# Altium schematic symbol library WE-PD.SchLib: 360 symbols (part 6 of 7)
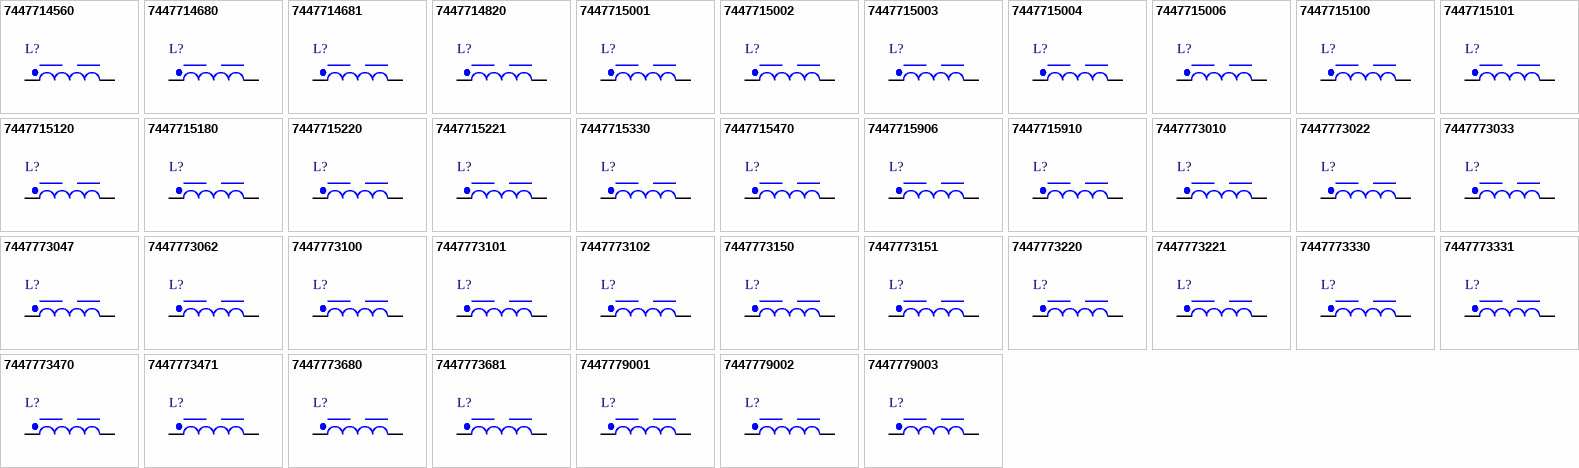
[diagram p13: symbols 7447714560 to 7447779003]

## 7447773471
designator L?, comment 470 μH, 0.43 A  (value not drawn)
WE-PD SMT Power Inductor, size 7345P, 470 μH, 0.43 A, 1700 mΩ; Manufacturer Part Number: 7447773471; Manufacturer: Wurth Elektronik; DC Resistance: 1360 mΩ; DC Resistance Max: 1700 mΩ; Inductance: 470 μH; Rated Current: 0.43 A; Saturation Current: 0.55 A; Self Resonant Frequency: 2.8 MHz; Type: Performance; Category: Power Inductors; Match Code: WE-PD; ComponentLink1Description: Website Link; ComponentLink1URL: https://www.we-online.com/redexpert/article/7447773471?ad; ComponentLink2Description: Datasheet Link; ComponentLink2URL: https://www.we-online.com/redexpert/spec/7447773471?ad; Mount: Surface Mount; Min Operating Temperature: -40 °C; Max Operating Temperature: 150 °C; Packaging: Tape and Reel; Case/Size Code: 7345P; Length: 7.3 mm; Width: 7.4 mm; Height: 4.5 mm
footprint WE-PD_7345P
simulation model 7345_7447773471_470u
pins: 1, 2

## 7447773680
designator L?, comment 68 μH, 1.15 A  (value not drawn)
WE-PD SMT Power Inductor, size 7345P, 68 μH, 1.15 A, 230 mΩ; Manufacturer Part Number: 7447773680; Manufacturer: Wurth Elektronik; DC Resistance: 190 mΩ; DC Resistance Max: 230 mΩ; Inductance: 68 μH; Rated Current: 1.15 A; Saturation Current: 1.45 A; Self Resonant Frequency: 8.4 MHz; Type: Performance; Category: Power Inductors; Match Code: WE-PD; ComponentLink1Description: Website Link; ComponentLink1URL: https://www.we-online.com/redexpert/article/7447773680?ad; ComponentLink2Description: Datasheet Link; ComponentLink2URL: https://www.we-online.com/redexpert/spec/7447773680?ad; Mount: Surface Mount; Min Operating Temperature: -40 °C; Max Operating Temperature: 150 °C; Packaging: Tape and Reel; Case/Size Code: 7345P; Length: 7.3 mm; Width: 7.4 mm; Height: 4.5 mm
footprint WE-PD_7345P
simulation model 7345_7447773680_68u
pins: 1, 2

## 7447773681
designator L?, comment 680 μH, 0.36 A  (value not drawn)
WE-PD SMT Power Inductor, size 7345P, 680 μH, 0.36 A, 2300 mΩ; Manufacturer Part Number: 7447773681; Manufacturer: Wurth Elektronik; DC Resistance: 1950 mΩ; DC Resistance Max: 2300 mΩ; Inductance: 680 μH; Rated Current: 0.36 A; Saturation Current: 0.46 A; Self Resonant Frequency: 2.3 MHz; Type: Performance; Category: Power Inductors; Match Code: WE-PD; ComponentLink1Description: Website Link; ComponentLink1URL: https://www.we-online.com/redexpert/article/7447773681?ad; ComponentLink2Description: Datasheet Link; ComponentLink2URL: https://www.we-online.com/redexpert/spec/7447773681?ad; Mount: Surface Mount; Min Operating Temperature: -40 °C; Max Operating Temperature: 150 °C; Packaging: Tape and Reel; Case/Size Code: 7345P; Length: 7.3 mm; Width: 7.4 mm; Height: 4.5 mm
footprint WE-PD_7345P
simulation model 7345_7447773681_680u
pins: 1, 2

## 7447779001
designator L?, comment 1 μH, 5.3 A  (value not drawn)
WE-PD SMT Power Inductor, size 7345R, 1 μH, 5.3 A, 15 mΩ; Manufacturer Part Number: 7447779001; Manufacturer: Wurth Elektronik; DC Resistance: 10 mΩ; DC Resistance Max: 15 mΩ; Inductance: 1 μH; Rated Current: 5.3 A; Saturation Current: 9.5 A; Self Resonant Frequency: 100 MHz; Type: Robust; Category: Power Inductors; Match Code: WE-PD; ComponentLink1Description: Website Link; ComponentLink1URL: https://www.we-online.com/redexpert/article/7447779001?ad; ComponentLink2Description: Datasheet Link; ComponentLink2URL: https://www.we-online.com/redexpert/spec/7447779001?ad; Mount: Surface Mount; Min Operating Temperature: -40 °C; Max Operating Temperature: 125 °C; Packaging: Tape and Reel; Case/Size Code: 7345R; Length: 7.3 mm; Width: 7.3 mm; Height: 4.5 mm
footprint WE-PD_7345R
simulation model 7345_7447779001_1u
pins: 1, 2

## 7447779002
designator L?, comment 2.2 μH, 4.2 A  (value not drawn)
WE-PD SMT Power Inductor, size 7345R, 2.2 μH, 4.2 A, 20 mΩ; Manufacturer Part Number: 7447779002; Manufacturer: Wurth Elektronik; DC Resistance: 16 mΩ; DC Resistance Max: 20 mΩ; Inductance: 2.2 μH; Rated Current: 4.2 A; Saturation Current: 6 A; Self Resonant Frequency: 60 MHz; Type: Robust; Category: Power Inductors; Match Code: WE-PD; ComponentLink1Description: Website Link; ComponentLink1URL: https://www.we-online.com/redexpert/article/7447779002?ad; ComponentLink2Description: Datasheet Link; ComponentLink2URL: https://www.we-online.com/redexpert/spec/7447779002?ad; Mount: Surface Mount; Min Operating Temperature: -40 °C; Max Operating Temperature: 125 °C; Packaging: Tape and Reel; Case/Size Code: 7345R; Length: 7.3 mm; Width: 7.3 mm; Height: 4.5 mm
footprint WE-PD_7345R
simulation model 7345_7447779002_2.2u
pins: 1, 2

## 7447779003
designator L?, comment 3.3 μH, 3.3 A  (value not drawn)
WE-PD SMT Power Inductor, size 7345R, 3.3 μH, 3.3 A, 30 mΩ; Manufacturer Part Number: 7447779003; Manufacturer: Wurth Elektronik; DC Resistance: 26 mΩ; DC Resistance Max: 30 mΩ; Inductance: 3.3 μH; Rated Current: 3.3 A; Saturation Current: 4.5 A; Self Resonant Frequency: 55 MHz; Type: Robust; Category: Power Inductors; Match Code: WE-PD; ComponentLink1Description: Website Link; ComponentLink1URL: https://www.we-online.com/redexpert/article/7447779003?ad; ComponentLink2Description: Datasheet Link; ComponentLink2URL: https://www.we-online.com/redexpert/spec/7447779003?ad; Mount: Surface Mount; Min Operating Temperature: -40 °C; Max Operating Temperature: 125 °C; Packaging: Tape and Reel; Case/Size Code: 7345R; Length: 7.3 mm; Width: 7.3 mm; Height: 4.5 mm
footprint WE-PD_7345R
simulation model 7345_7447779003_3.3u
pins: 1, 2

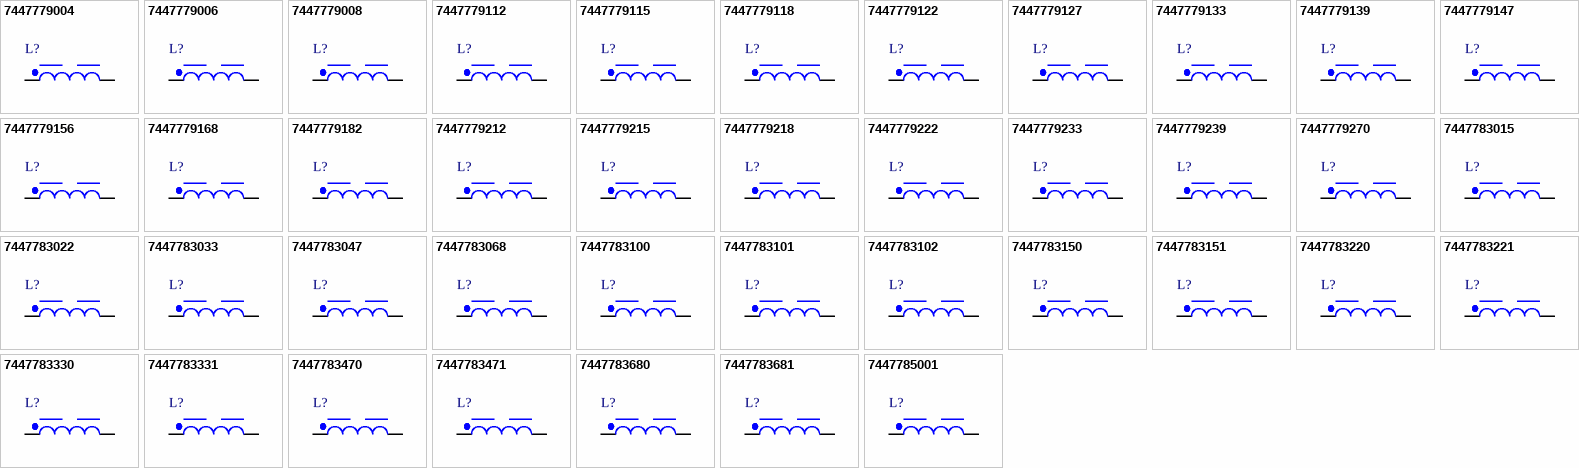
[diagram p7: symbols 7447779004 to 7447785001]

## 7447779004
designator L?, comment 4.7 μH, 3.16 A  (value not drawn)
WE-PD SMT Power Inductor, size 7345R, 4.7 μH, 3.16 A, 32 mΩ; Manufacturer Part Number: 7447779004; Manufacturer: Wurth Elektronik; DC Resistance: 28 mΩ; DC Resistance Max: 32 mΩ; Inductance: 4.7 μH; Rated Current: 3.16 A; Saturation Current: 4.4 A; Self Resonant Frequency: 37 MHz; Type: Robust; Category: Power Inductors; Match Code: WE-PD; ComponentLink1Description: Website Link; ComponentLink1URL: https://www.we-online.com/redexpert/article/7447779004?ad; ComponentLink2Description: Datasheet Link; ComponentLink2URL: https://www.we-online.com/redexpert/spec/7447779004?ad; Mount: Surface Mount; Min Operating Temperature: -40 °C; Max Operating Temperature: 125 °C; Packaging: Tape and Reel; Case/Size Code: 7345R; Length: 7.3 mm; Width: 7.3 mm; Height: 4.5 mm
footprint WE-PD_7345R
simulation model 7345_7447779004_4.7u
pins: 1, 2

## 7447779006
designator L?, comment 6.8 μH, 2.91 A  (value not drawn)
WE-PD SMT Power Inductor, size 7345R, 6.8 μH, 2.91 A, 35 mΩ; Manufacturer Part Number: 7447779006; Manufacturer: Wurth Elektronik; DC Resistance: 33 mΩ; DC Resistance Max: 35 mΩ; Inductance: 6.8 μH; Rated Current: 2.91 A; Saturation Current: 3.3 A; Self Resonant Frequency: 32 MHz; Type: Robust; Category: Power Inductors; Match Code: WE-PD; ComponentLink1Description: Website Link; ComponentLink1URL: https://www.we-online.com/redexpert/article/7447779006?ad; ComponentLink2Description: Datasheet Link; ComponentLink2URL: https://www.we-online.com/redexpert/spec/7447779006?ad; Mount: Surface Mount; Min Operating Temperature: -40 °C; Max Operating Temperature: 125 °C; Packaging: Tape and Reel; Case/Size Code: 7345R; Length: 7.3 mm; Width: 7.3 mm; Height: 4.5 mm
footprint WE-PD_7345R
simulation model 7345_7447779006_6.8u
pins: 1, 2

## 7447779008
designator L?, comment 8.2 μH, 2.7 A  (value not drawn)
WE-PD SMT Power Inductor, size 7345R, 8.2 μH, 2.7 A, 53 mΩ; Manufacturer Part Number: 7447779008; Manufacturer: Wurth Elektronik; DC Resistance: 47 mΩ; DC Resistance Max: 53 mΩ; Inductance: 8.2 μH; Rated Current: 2.7 A; Saturation Current: 3 A; Self Resonant Frequency: 28 MHz; Type: Robust; Category: Power Inductors; Match Code: WE-PD; ComponentLink1Description: Website Link; ComponentLink1URL: https://www.we-online.com/redexpert/article/7447779008?ad; ComponentLink2Description: Datasheet Link; ComponentLink2URL: https://www.we-online.com/redexpert/spec/7447779008?ad; Mount: Surface Mount; Min Operating Temperature: -40 °C; Max Operating Temperature: 125 °C; Packaging: Tape and Reel; Case/Size Code: 7345R; Length: 7.3 mm; Width: 7.3 mm; Height: 4.5 mm
footprint WE-PD_7345R
simulation model 7345_7447779008_8.2u
pins: 1, 2

## 7447779112
designator L?, comment 12 μH, 1.82 A  (value not drawn)
WE-PD SMT Power Inductor, size 7345R, 12 μH, 1.82 A, 62 mΩ; Manufacturer Part Number: 7447779112; Manufacturer: Wurth Elektronik; DC Resistance: 52 mΩ; DC Resistance Max: 62 mΩ; Inductance: 12 μH; Rated Current: 1.82 A; Saturation Current: 2.4 A; Self Resonant Frequency: 23 MHz; Type: Robust; Category: Power Inductors; Match Code: WE-PD; ComponentLink1Description: Website Link; ComponentLink1URL: https://www.we-online.com/redexpert/article/7447779112?ad; ComponentLink2Description: Datasheet Link; ComponentLink2URL: https://www.we-online.com/redexpert/spec/7447779112?ad; Mount: Surface Mount; Min Operating Temperature: -40 °C; Max Operating Temperature: 125 °C; Packaging: Tape and Reel; Case/Size Code: 7345R; Length: 7.3 mm; Width: 7.3 mm; Height: 4.5 mm
footprint WE-PD_7345R
simulation model 7345_7447779112_12u
pins: 1, 2

## 7447779115
designator L?, comment 15 μH, 1.6 A  (value not drawn)
WE-PD SMT Power Inductor, size 7345R, 15 μH, 1.6 A, 81 mΩ; Manufacturer Part Number: 7447779115; Manufacturer: Wurth Elektronik; DC Resistance: 70 mΩ; DC Resistance Max: 81 mΩ; Inductance: 15 μH; Rated Current: 1.6 A; Saturation Current: 2.2 A; Self Resonant Frequency: 19.5 MHz; Type: Robust; Category: Power Inductors; Match Code: WE-PD; ComponentLink1Description: Website Link; ComponentLink1URL: https://www.we-online.com/redexpert/article/7447779115?ad; ComponentLink2Description: Datasheet Link; ComponentLink2URL: https://www.we-online.com/redexpert/spec/7447779115?ad; Mount: Surface Mount; Min Operating Temperature: -40 °C; Max Operating Temperature: 125 °C; Packaging: Tape and Reel; Case/Size Code: 7345R; Length: 7.3 mm; Width: 7.3 mm; Height: 4.5 mm
footprint WE-PD_7345R
simulation model 7345_7447779115_15u
pins: 1, 2

## 7447779118
designator L?, comment 18 μH, 1.5 A  (value not drawn)
WE-PD SMT Power Inductor, size 7345R, 18 μH, 1.5 A, 91 mΩ; Manufacturer Part Number: 7447779118; Manufacturer: Wurth Elektronik; DC Resistance: 80 mΩ; DC Resistance Max: 91 mΩ; Inductance: 18 μH; Rated Current: 1.5 A; Saturation Current: 2.05 A; Self Resonant Frequency: 19 MHz; Type: Robust; Category: Power Inductors; Match Code: WE-PD; ComponentLink1Description: Website Link; ComponentLink1URL: https://www.we-online.com/redexpert/article/7447779118?ad; ComponentLink2Description: Datasheet Link; ComponentLink2URL: https://www.we-online.com/redexpert/spec/7447779118?ad; Mount: Surface Mount; Min Operating Temperature: -40 °C; Max Operating Temperature: 125 °C; Packaging: Tape and Reel; Case/Size Code: 7345R; Length: 7.3 mm; Width: 7.3 mm; Height: 4.5 mm
footprint WE-PD_7345R
simulation model 7345_7447779118_18u
pins: 1, 2

## 7447779122
designator L?, comment 22 μH, 1.41 A  (value not drawn)
WE-PD SMT Power Inductor, size 7345R, 22 μH, 1.41 A, 110 mΩ; Manufacturer Part Number: 7447779122; Manufacturer: Wurth Elektronik; DC Resistance: 90 mΩ; DC Resistance Max: 110 mΩ; Inductance: 22 μH; Rated Current: 1.41 A; Saturation Current: 1.7 A; Self Resonant Frequency: 17 MHz; Type: Robust; Category: Power Inductors; Match Code: WE-PD; ComponentLink1Description: Website Link; ComponentLink1URL: https://www.we-online.com/redexpert/article/7447779122?ad; ComponentLink2Description: Datasheet Link; ComponentLink2URL: https://www.we-online.com/redexpert/spec/7447779122?ad; Mount: Surface Mount; Min Operating Temperature: -40 °C; Max Operating Temperature: 125 °C; Packaging: Tape and Reel; Case/Size Code: 7345R; Length: 7.3 mm; Width: 7.3 mm; Height: 4.5 mm
footprint WE-PD_7345R
simulation model 7345_7447779122_22u
pins: 1, 2

## 7447779127
designator L?, comment 27 μH, 1.24 A  (value not drawn)
WE-PD SMT Power Inductor, size 7345R, 27 μH, 1.24 A, 150 mΩ; Manufacturer Part Number: 7447779127; Manufacturer: Wurth Elektronik; DC Resistance: 120 mΩ; DC Resistance Max: 150 mΩ; Inductance: 27 μH; Rated Current: 1.24 A; Saturation Current: 1.55 A; Self Resonant Frequency: 15 MHz; Type: Robust; Category: Power Inductors; Match Code: WE-PD; ComponentLink1Description: Website Link; ComponentLink1URL: https://www.we-online.com/redexpert/article/7447779127?ad; ComponentLink2Description: Datasheet Link; ComponentLink2URL: https://www.we-online.com/redexpert/spec/7447779127?ad; Mount: Surface Mount; Min Operating Temperature: -40 °C; Max Operating Temperature: 125 °C; Packaging: Tape and Reel; Case/Size Code: 7345R; Length: 7.3 mm; Width: 7.3 mm; Height: 4.5 mm
footprint WE-PD_7345R
simulation model 7345_7447779127_27u
pins: 1, 2

## 7447779133
designator L?, comment 33 μH, 1.13 A  (value not drawn)
WE-PD SMT Power Inductor, size 7345R, 33 μH, 1.13 A, 170 mΩ; Manufacturer Part Number: 7447779133; Manufacturer: Wurth Elektronik; DC Resistance: 140 mΩ; DC Resistance Max: 170 mΩ; Inductance: 33 μH; Rated Current: 1.13 A; Saturation Current: 1.4 A; Self Resonant Frequency: 13 MHz; Type: Robust; Category: Power Inductors; Match Code: WE-PD; ComponentLink1Description: Website Link; ComponentLink1URL: https://www.we-online.com/redexpert/article/7447779133?ad; ComponentLink2Description: Datasheet Link; ComponentLink2URL: https://www.we-online.com/redexpert/spec/7447779133?ad; Mount: Surface Mount; Min Operating Temperature: -40 °C; Max Operating Temperature: 125 °C; Packaging: Tape and Reel; Case/Size Code: 7345R; Length: 7.3 mm; Width: 7.3 mm; Height: 4.5 mm
footprint WE-PD_7345R
simulation model 7345_7447779133_33u
pins: 1, 2

## 7447779139
designator L?, comment 39 μH, 1.11 A  (value not drawn)
WE-PD SMT Power Inductor, size 7345R, 39 μH, 1.11 A, 230 mΩ; Manufacturer Part Number: 7447779139; Manufacturer: Wurth Elektronik; DC Resistance: 145 mΩ; DC Resistance Max: 230 mΩ; Inductance: 39 μH; Rated Current: 1.11 A; Saturation Current: 1.23 A; Self Resonant Frequency: 12 MHz; Type: Robust; Category: Power Inductors; Match Code: WE-PD; ComponentLink1Description: Website Link; ComponentLink1URL: https://www.we-online.com/redexpert/article/7447779139?ad; ComponentLink2Description: Datasheet Link; ComponentLink2URL: https://www.we-online.com/redexpert/spec/7447779139?ad; Mount: Surface Mount; Min Operating Temperature: -40 °C; Max Operating Temperature: 125 °C; Packaging: Tape and Reel; Case/Size Code: 7345R; Length: 7.3 mm; Width: 7.3 mm; Height: 4.5 mm
footprint WE-PD_7345R
simulation model 7345_7447779139_39u
pins: 1, 2

## 7447779147
designator L?, comment 47 μH, 1.03 A  (value not drawn)
WE-PD SMT Power Inductor, size 7345R, 47 μH, 1.03 A, 260 mΩ; Manufacturer Part Number: 7447779147; Manufacturer: Wurth Elektronik; DC Resistance: 190 mΩ; DC Resistance Max: 260 mΩ; Inductance: 47 μH; Rated Current: 1.03 A; Saturation Current: 1.1 A; Self Resonant Frequency: 10.5 MHz; Type: Robust; Category: Power Inductors; Match Code: WE-PD; ComponentLink1Description: Website Link; ComponentLink1URL: https://www.we-online.com/redexpert/article/7447779147?ad; ComponentLink2Description: Datasheet Link; ComponentLink2URL: https://www.we-online.com/redexpert/spec/7447779147?ad; Mount: Surface Mount; Min Operating Temperature: -40 °C; Max Operating Temperature: 125 °C; Packaging: Tape and Reel; Case/Size Code: 7345R; Length: 7.3 mm; Width: 7.3 mm; Height: 4.5 mm
footprint WE-PD_7345R
simulation model 7345_7447779147_47u
pins: 1, 2

## 7447779156
designator L?, comment 56 μH, 0.93 A  (value not drawn)
WE-PD SMT Power Inductor, size 7345R, 56 μH, 0.93 A, 350 mΩ; Manufacturer Part Number: 7447779156; Manufacturer: Wurth Elektronik; DC Resistance: 228 mΩ; DC Resistance Max: 350 mΩ; Inductance: 56 μH; Rated Current: 0.93 A; Saturation Current: 1.05 A; Self Resonant Frequency: 10 MHz; Type: Robust; Category: Power Inductors; Match Code: WE-PD; ComponentLink1Description: Website Link; ComponentLink1URL: https://www.we-online.com/redexpert/article/7447779156?ad; ComponentLink2Description: Datasheet Link; ComponentLink2URL: https://www.we-online.com/redexpert/spec/7447779156?ad; Mount: Surface Mount; Min Operating Temperature: -40 °C; Max Operating Temperature: 125 °C; Packaging: Tape and Reel; Case/Size Code: 7345R; Length: 7.3 mm; Width: 7.3 mm; Height: 4.5 mm
footprint WE-PD_7345R
simulation model 7345_7447779156_56u
pins: 1, 2

## 7447779168
designator L?, comment 68 μH, 0.87 A  (value not drawn)
WE-PD SMT Power Inductor, size 7345R, 68 μH, 0.87 A, 380 mΩ; Manufacturer Part Number: 7447779168; Manufacturer: Wurth Elektronik; DC Resistance: 239 mΩ; DC Resistance Max: 380 mΩ; Inductance: 68 μH; Rated Current: 0.87 A; Saturation Current: 0.95 A; Self Resonant Frequency: 9 MHz; Type: Robust; Category: Power Inductors; Match Code: WE-PD; ComponentLink1Description: Website Link; ComponentLink1URL: https://www.we-online.com/redexpert/article/7447779168?ad; ComponentLink2Description: Datasheet Link; ComponentLink2URL: https://www.we-online.com/redexpert/spec/7447779168?ad; Mount: Surface Mount; Min Operating Temperature: -40 °C; Max Operating Temperature: 125 °C; Packaging: Tape and Reel; Case/Size Code: 7345R; Length: 7.3 mm; Width: 7.3 mm; Height: 4.5 mm
footprint WE-PD_7345R
simulation model 7345_7447779168_68u
pins: 1, 2

## 7447779182
designator L?, comment 82 μH, 0.84 A  (value not drawn)
WE-PD SMT Power Inductor, size 7345R, 82 μH, 0.84 A, 430 mΩ; Manufacturer Part Number: 7447779182; Manufacturer: Wurth Elektronik; DC Resistance: 250 mΩ; DC Resistance Max: 430 mΩ; Inductance: 82 μH; Rated Current: 0.84 A; Saturation Current: 0.9 A; Self Resonant Frequency: 8 MHz; Type: Robust; Category: Power Inductors; Match Code: WE-PD; ComponentLink1Description: Website Link; ComponentLink1URL: https://www.we-online.com/redexpert/article/7447779182?ad; ComponentLink2Description: Datasheet Link; ComponentLink2URL: https://www.we-online.com/redexpert/spec/7447779182?ad; Mount: Surface Mount; Min Operating Temperature: -40 °C; Max Operating Temperature: 125 °C; Packaging: Tape and Reel; Case/Size Code: 7345R; Length: 7.3 mm; Width: 7.3 mm; Height: 4.5 mm
footprint WE-PD_7345R
simulation model 7345_7447779182_82u
pins: 1, 2

## 7447779212
designator L?, comment 120 μH, 0.67 A  (value not drawn)
WE-PD SMT Power Inductor, size 7345R, 120 μH, 0.67 A, 660 mΩ; Manufacturer Part Number: 7447779212; Manufacturer: Wurth Elektronik; DC Resistance: 396 mΩ; DC Resistance Max: 660 mΩ; Inductance: 120 μH; Rated Current: 0.67 A; Saturation Current: 0.7 A; Self Resonant Frequency: 6.7 MHz; Type: Robust; Category: Power Inductors; Match Code: WE-PD; ComponentLink1Description: Website Link; ComponentLink1URL: https://www.we-online.com/redexpert/article/7447779212?ad; ComponentLink2Description: Datasheet Link; ComponentLink2URL: https://www.we-online.com/redexpert/spec/7447779212?ad; Mount: Surface Mount; Min Operating Temperature: -40 °C; Max Operating Temperature: 125 °C; Packaging: Tape and Reel; Case/Size Code: 7345R; Length: 7.3 mm; Width: 7.3 mm; Height: 4.5 mm
footprint WE-PD_7345R
simulation model 7345_7447779212_120u
pins: 1, 2

## 7447779215
designator L?, comment 150 μH, 0.52 A  (value not drawn)
WE-PD SMT Power Inductor, size 7345R, 150 μH, 0.52 A, 880 mΩ; Manufacturer Part Number: 7447779215; Manufacturer: Wurth Elektronik; DC Resistance: 529 mΩ; DC Resistance Max: 880 mΩ; Inductance: 150 μH; Rated Current: 0.52 A; Saturation Current: 0.63 A; Self Resonant Frequency: 6 MHz; Type: Robust; Category: Power Inductors; Match Code: WE-PD; ComponentLink1Description: Website Link; ComponentLink1URL: https://www.we-online.com/redexpert/article/7447779215?ad; ComponentLink2Description: Datasheet Link; ComponentLink2URL: https://www.we-online.com/redexpert/spec/7447779215?ad; Mount: Surface Mount; Min Operating Temperature: -40 °C; Max Operating Temperature: 125 °C; Packaging: Tape and Reel; Case/Size Code: 7345R; Length: 7.3 mm; Width: 7.3 mm; Height: 4.5 mm
footprint WE-PD_7345R
simulation model 7345_7447779215_150u
pins: 1, 2

## 7447779218
designator L?, comment 180 μH, 0.51 A  (value not drawn)
WE-PD SMT Power Inductor, size 7345R, 180 μH, 0.51 A, 980 mΩ; Manufacturer Part Number: 7447779218; Manufacturer: Wurth Elektronik; DC Resistance: 603 mΩ; DC Resistance Max: 980 mΩ; Inductance: 180 μH; Rated Current: 0.51 A; Saturation Current: 0.56 A; Self Resonant Frequency: 5.3 MHz; Type: Robust; Category: Power Inductors; Match Code: WE-PD; ComponentLink1Description: Website Link; ComponentLink1URL: https://www.we-online.com/redexpert/article/7447779218?ad; ComponentLink2Description: Datasheet Link; ComponentLink2URL: https://www.we-online.com/redexpert/spec/7447779218?ad; Mount: Surface Mount; Min Operating Temperature: -40 °C; Max Operating Temperature: 125 °C; Packaging: Tape and Reel; Case/Size Code: 7345R; Length: 7.3 mm; Width: 7.3 mm; Height: 4.5 mm
footprint WE-PD_7345R
simulation model 7345_7447779218_180u
pins: 1, 2

## 7447779222
designator L?, comment 220 μH, 0.44 A  (value not drawn)
WE-PD SMT Power Inductor, size 7345R, 220 μH, 0.44 A, 1170 mΩ; Manufacturer Part Number: 7447779222; Manufacturer: Wurth Elektronik; DC Resistance: 920 mΩ; DC Resistance Max: 1170 mΩ; Inductance: 220 μH; Rated Current: 0.44 A; Saturation Current: 0.54 A; Self Resonant Frequency: 5 MHz; Type: Robust; Category: Power Inductors; Match Code: WE-PD; ComponentLink1Description: Website Link; ComponentLink1URL: https://www.we-online.com/redexpert/article/7447779222?ad; ComponentLink2Description: Datasheet Link; ComponentLink2URL: https://www.we-online.com/redexpert/spec/7447779222?ad; Mount: Surface Mount; Min Operating Temperature: -40 °C; Max Operating Temperature: 125 °C; Packaging: Tape and Reel; Case/Size Code: 7345R; Length: 7.3 mm; Width: 7.3 mm; Height: 4.5 mm
footprint WE-PD_7345R
simulation model 7345_7447779222_220u
pins: 1, 2

## 7447779233
designator L?, comment 330 μH, 0.39 A  (value not drawn)
WE-PD SMT Power Inductor, size 7345R, 330 μH, 0.39 A, 1860 mΩ; Manufacturer Part Number: 7447779233; Manufacturer: Wurth Elektronik; DC Resistance: 1150 mΩ; DC Resistance Max: 1860 mΩ; Inductance: 330 μH; Rated Current: 0.39 A; Saturation Current: 0.45 A; Self Resonant Frequency: 4 MHz; Type: Robust; Category: Power Inductors; Match Code: WE-PD; ComponentLink1Description: Website Link; ComponentLink1URL: https://www.we-online.com/redexpert/article/7447779233?ad; ComponentLink2Description: Datasheet Link; ComponentLink2URL: https://www.we-online.com/redexpert/spec/7447779233?ad; Mount: Surface Mount; Min Operating Temperature: -40 °C; Max Operating Temperature: 125 °C; Packaging: Tape and Reel; Case/Size Code: 7345R; Length: 7.3 mm; Width: 7.3 mm; Height: 4.5 mm
footprint WE-PD_7345R
simulation model 7345_7447779233_330u
pins: 1, 2

## 7447779239
designator L?, comment 390 μH, 0.38 A  (value not drawn)
WE-PD SMT Power Inductor, size 7345R, 390 μH, 0.38 A, 2850 mΩ; Manufacturer Part Number: 7447779239; Manufacturer: Wurth Elektronik; DC Resistance: 1400 mΩ; DC Resistance Max: 2850 mΩ; Inductance: 390 μH; Rated Current: 0.38 A; Saturation Current: 0.42 A; Self Resonant Frequency: 3.8 MHz; Type: Robust; Category: Power Inductors; Match Code: WE-PD; ComponentLink1Description: Website Link; ComponentLink1URL: https://www.we-online.com/redexpert/article/7447779239?ad; ComponentLink2Description: Datasheet Link; ComponentLink2URL: https://www.we-online.com/redexpert/spec/7447779239?ad; Mount: Surface Mount; Min Operating Temperature: -40 °C; Max Operating Temperature: 125 °C; Packaging: Tape and Reel; Case/Size Code: 7345R; Length: 7.3 mm; Width: 7.3 mm; Height: 4.5 mm
footprint WE-PD_7345R
simulation model 7345_7447779239_390u
pins: 1, 2

## 7447779270
designator L?, comment 270 μH, 0.43 A  (value not drawn)
WE-PD SMT Power Inductor, size 7345R, 270 μH, 0.43 A, 1640 mΩ; Manufacturer Part Number: 7447779270; Manufacturer: Wurth Elektronik; DC Resistance: 1090 mΩ; DC Resistance Max: 1640 mΩ; Inductance: 270 μH; Rated Current: 0.43 A; Saturation Current: 0.48 A; Self Resonant Frequency: 4.3 MHz; Type: Robust; Category: Power Inductors; Match Code: WE-PD; ComponentLink1Description: Website Link; ComponentLink1URL: https://www.we-online.com/redexpert/article/7447779270?ad; ComponentLink2Description: Datasheet Link; ComponentLink2URL: https://www.we-online.com/redexpert/spec/7447779270?ad; Mount: Surface Mount; Min Operating Temperature: -40 °C; Max Operating Temperature: 125 °C; Packaging: Tape and Reel; Case/Size Code: 7345R; Length: 7.3 mm; Width: 7.3 mm; Height: 4.5 mm
footprint WE-PD_7345R
simulation model 7345_7447779270_270u
pins: 1, 2

## 7447783015
designator L?, comment 1.5 μH, 5 A  (value not drawn)
WE-PD SMT Power Inductor, size 7332P, 1.5 μH, 5 A, 15 mΩ; Manufacturer Part Number: 7447783015; Manufacturer: Wurth Elektronik; DC Resistance: 12 mΩ; DC Resistance Max: 15 mΩ; Inductance: 1.5 μH; Rated Current: 5 A; Saturation Current: 7.8 A; Self Resonant Frequency: 73 MHz; Type: Performance; Category: Power Inductors; Match Code: WE-PD; ComponentLink1Description: Website Link; ComponentLink1URL: https://www.we-online.com/redexpert/article/7447783015?ad; ComponentLink2Description: Datasheet Link; ComponentLink2URL: https://www.we-online.com/redexpert/spec/7447783015?ad; Mount: Surface Mount; Min Operating Temperature: -40 °C; Max Operating Temperature: 150 °C; Packaging: Tape and Reel; Case/Size Code: 7332P; Length: 7.3 mm; Width: 7.4 mm; Height: 3.5 mm
footprint WE-PD_7332P
simulation model 7332_7447783015_1.5u
pins: 1, 2

## 7447783022
designator L?, comment 2.2 μH, 4.5 A  (value not drawn)
WE-PD SMT Power Inductor, size 7332P, 2.2 μH, 4.5 A, 19 mΩ; Manufacturer Part Number: 7447783022; Manufacturer: Wurth Elektronik; DC Resistance: 15.5 mΩ; DC Resistance Max: 19 mΩ; Inductance: 2.2 μH; Rated Current: 4.5 A; Saturation Current: 6.5 A; Self Resonant Frequency: 62 MHz; Type: Performance; Category: Power Inductors; Match Code: WE-PD; ComponentLink1Description: Website Link; ComponentLink1URL: https://www.we-online.com/redexpert/article/7447783022?ad; ComponentLink2Description: Datasheet Link; ComponentLink2URL: https://www.we-online.com/redexpert/spec/7447783022?ad; Mount: Surface Mount; Min Operating Temperature: -40 °C; Max Operating Temperature: 150 °C; Packaging: Tape and Reel; Case/Size Code: 7332P; Length: 7.3 mm; Width: 7.4 mm; Height: 3.5 mm
footprint WE-PD_7332P
simulation model 7332_7447783022_2.2u
pins: 1, 2

## 7447783033
designator L?, comment 3.3 μH, 4.1 A  (value not drawn)
WE-PD SMT Power Inductor, size 7332P, 3.3 μH, 4.1 A, 24 mΩ; Manufacturer Part Number: 7447783033; Manufacturer: Wurth Elektronik; DC Resistance: 18 mΩ; DC Resistance Max: 24 mΩ; Inductance: 3.3 μH; Rated Current: 4.1 A; Saturation Current: 5.3 A; Self Resonant Frequency: 51 MHz; Type: Performance; Category: Power Inductors; Match Code: WE-PD; ComponentLink1Description: Website Link; ComponentLink1URL: https://www.we-online.com/redexpert/article/7447783033?ad; ComponentLink2Description: Datasheet Link; ComponentLink2URL: https://www.we-online.com/redexpert/spec/7447783033?ad; Mount: Surface Mount; Min Operating Temperature: -40 °C; Max Operating Temperature: 150 °C; Packaging: Tape and Reel; Case/Size Code: 7332P; Length: 7.3 mm; Width: 7.4 mm; Height: 3.5 mm
footprint WE-PD_7332P
simulation model 7332_7447783033_3.3u
pins: 1, 2

## 7447783047
designator L?, comment 4.7 μH, 3.3 A  (value not drawn)
WE-PD SMT Power Inductor, size 7332P, 4.7 μH, 3.3 A, 35 mΩ; Manufacturer Part Number: 7447783047; Manufacturer: Wurth Elektronik; DC Resistance: 27 mΩ; DC Resistance Max: 35 mΩ; Inductance: 4.7 μH; Rated Current: 3.3 A; Saturation Current: 4.6 A; Self Resonant Frequency: 38 MHz; Type: Performance; Category: Power Inductors; Match Code: WE-PD; ComponentLink1Description: Website Link; ComponentLink1URL: https://www.we-online.com/redexpert/article/7447783047?ad; ComponentLink2Description: Datasheet Link; ComponentLink2URL: https://www.we-online.com/redexpert/spec/7447783047?ad; Mount: Surface Mount; Min Operating Temperature: -40 °C; Max Operating Temperature: 150 °C; Packaging: Tape and Reel; Case/Size Code: 7332P; Length: 7.3 mm; Width: 7.4 mm; Height: 3.5 mm
footprint WE-PD_7332P
simulation model 7332_7447783047_4.7u
pins: 1, 2

## 7447783068
designator L?, comment 6.8 μH, 2.9 A  (value not drawn)
WE-PD SMT Power Inductor, size 7332P, 6.8 μH, 2.9 A, 41 mΩ; Manufacturer Part Number: 7447783068; Manufacturer: Wurth Elektronik; DC Resistance: 33 mΩ; DC Resistance Max: 41 mΩ; Inductance: 6.8 μH; Rated Current: 2.9 A; Saturation Current: 3.8 A; Self Resonant Frequency: 35 MHz; Type: Performance; Category: Power Inductors; Match Code: WE-PD; ComponentLink1Description: Website Link; ComponentLink1URL: https://www.we-online.com/redexpert/article/7447783068?ad; ComponentLink2Description: Datasheet Link; ComponentLink2URL: https://www.we-online.com/redexpert/spec/7447783068?ad; Mount: Surface Mount; Min Operating Temperature: -40 °C; Max Operating Temperature: 150 °C; Packaging: Tape and Reel; Case/Size Code: 7332P; Length: 7.3 mm; Width: 7.4 mm; Height: 3.5 mm
footprint WE-PD_7332P
simulation model 7332_7447783068_6.8u
pins: 1, 2

## 7447783100
designator L?, comment 10 μH, 2.2 A  (value not drawn)
WE-PD SMT Power Inductor, size 7332P, 10 μH, 2.2 A, 68 mΩ; Manufacturer Part Number: 7447783100; Manufacturer: Wurth Elektronik; DC Resistance: 56 mΩ; DC Resistance Max: 68 mΩ; Inductance: 10 μH; Rated Current: 2.2 A; Saturation Current: 3.1 A; Self Resonant Frequency: 30 MHz; Type: Performance; Category: Power Inductors; Match Code: WE-PD; ComponentLink1Description: Website Link; ComponentLink1URL: https://www.we-online.com/redexpert/article/7447783100?ad; ComponentLink2Description: Datasheet Link; ComponentLink2URL: https://www.we-online.com/redexpert/spec/7447783100?ad; Mount: Surface Mount; Min Operating Temperature: -40 °C; Max Operating Temperature: 150 °C; Packaging: Tape and Reel; Case/Size Code: 7332P; Length: 7.3 mm; Width: 7.4 mm; Height: 3.5 mm
footprint WE-PD_7332P
simulation model 7332_7447783100_10u
pins: 1, 2

## 7447783101
designator L?, comment 100 μH, 0.82 A  (value not drawn)
WE-PD SMT Power Inductor, size 7332P, 100 μH, 0.82 A, 450 mΩ; Manufacturer Part Number: 7447783101; Manufacturer: Wurth Elektronik; DC Resistance: 390 mΩ; DC Resistance Max: 450 mΩ; Inductance: 100 μH; Rated Current: 0.82 A; Saturation Current: 1 A; Self Resonant Frequency: 7.8 MHz; Type: Performance; Category: Power Inductors; Match Code: WE-PD; ComponentLink1Description: Website Link; ComponentLink1URL: https://www.we-online.com/redexpert/article/7447783101?ad; ComponentLink2Description: Datasheet Link; ComponentLink2URL: https://www.we-online.com/redexpert/spec/7447783101?ad; Mount: Surface Mount; Min Operating Temperature: -40 °C; Max Operating Temperature: 150 °C; Packaging: Tape and Reel; Case/Size Code: 7332P; Length: 7.3 mm; Width: 7.4 mm; Height: 3.5 mm
footprint WE-PD_7332P
simulation model 7332_7447783101_100u
pins: 1, 2

## 7447783102
designator L?, comment 1000 μH, 0.23 A  (value not drawn)
WE-PD SMT Power Inductor, size 7332P, 1000 μH, 0.23 A, 4600 mΩ; Manufacturer Part Number: 7447783102; Manufacturer: Wurth Elektronik; DC Resistance: 4000 mΩ; DC Resistance Max: 4600 mΩ; Inductance: 1000 μH; Rated Current: 0.23 A; Saturation Current: 0.32 A; Self Resonant Frequency: 2.2 MHz; Type: Performance; Category: Power Inductors; Match Code: WE-PD; ComponentLink1Description: Website Link; ComponentLink1URL: https://www.we-online.com/redexpert/article/7447783102?ad; ComponentLink2Description: Datasheet Link; ComponentLink2URL: https://www.we-online.com/redexpert/spec/7447783102?ad; Mount: Surface Mount; Min Operating Temperature: -40 °C; Max Operating Temperature: 150 °C; Packaging: Tape and Reel; Case/Size Code: 7332P; Length: 7.3 mm; Width: 7.4 mm; Height: 3.5 mm
footprint WE-PD_7332P
simulation model 7332_7447783102_1000u
pins: 1, 2

## 7447783150
designator L?, comment 15 μH, 2 A  (value not drawn)
WE-PD SMT Power Inductor, size 7332P, 15 μH, 2 A, 85 mΩ; Manufacturer Part Number: 7447783150; Manufacturer: Wurth Elektronik; DC Resistance: 68 mΩ; DC Resistance Max: 85 mΩ; Inductance: 15 μH; Rated Current: 2 A; Saturation Current: 2.5 A; Self Resonant Frequency: 23 MHz; Type: Performance; Category: Power Inductors; Match Code: WE-PD; ComponentLink1Description: Website Link; ComponentLink1URL: https://www.we-online.com/redexpert/article/7447783150?ad; ComponentLink2Description: Datasheet Link; ComponentLink2URL: https://www.we-online.com/redexpert/spec/7447783150?ad; Mount: Surface Mount; Min Operating Temperature: -40 °C; Max Operating Temperature: 150 °C; Packaging: Tape and Reel; Case/Size Code: 7332P; Length: 7.3 mm; Width: 7.4 mm; Height: 3.5 mm
footprint WE-PD_7332P
simulation model 7332_7447783150_15u
pins: 1, 2

## 7447783151
designator L?, comment 150 μH, 0.63 A  (value not drawn)
WE-PD SMT Power Inductor, size 7332P, 150 μH, 0.63 A, 750 mΩ; Manufacturer Part Number: 7447783151; Manufacturer: Wurth Elektronik; DC Resistance: 630 mΩ; DC Resistance Max: 750 mΩ; Inductance: 150 μH; Rated Current: 0.63 A; Saturation Current: 0.84 A; Self Resonant Frequency: 6.25 MHz; Type: Performance; Category: Power Inductors; Match Code: WE-PD; ComponentLink1Description: Website Link; ComponentLink1URL: https://www.we-online.com/redexpert/article/7447783151?ad; ComponentLink2Description: Datasheet Link; ComponentLink2URL: https://www.we-online.com/redexpert/spec/7447783151?ad; Mount: Surface Mount; Min Operating Temperature: -40 °C; Max Operating Temperature: 150 °C; Packaging: Tape and Reel; Case/Size Code: 7332P; Length: 7.3 mm; Width: 7.4 mm; Height: 3.5 mm
footprint WE-PD_7332P
simulation model 7332_7447783151_150u
pins: 1, 2

## 7447783220
designator L?, comment 22 μH, 1.75 A  (value not drawn)
WE-PD SMT Power Inductor, size 7332P, 22 μH, 1.75 A, 115 mΩ; Manufacturer Part Number: 7447783220; Manufacturer: Wurth Elektronik; DC Resistance: 90 mΩ; DC Resistance Max: 115 mΩ; Inductance: 22 μH; Rated Current: 1.75 A; Saturation Current: 2.15 A; Self Resonant Frequency: 18 MHz; Type: Performance; Category: Power Inductors; Match Code: WE-PD; ComponentLink1Description: Website Link; ComponentLink1URL: https://www.we-online.com/redexpert/article/7447783220?ad; ComponentLink2Description: Datasheet Link; ComponentLink2URL: https://www.we-online.com/redexpert/spec/7447783220?ad; Mount: Surface Mount; Min Operating Temperature: -40 °C; Max Operating Temperature: 150 °C; Packaging: Tape and Reel; Case/Size Code: 7332P; Length: 7.3 mm; Width: 7.4 mm; Height: 3.5 mm
footprint WE-PD_7332P
simulation model 7332_7447783220_22u
pins: 1, 2

## 7447783221
designator L?, comment 220 μH, 0.54 A  (value not drawn)
WE-PD SMT Power Inductor, size 7332P, 220 μH, 0.54 A, 1040 mΩ; Manufacturer Part Number: 7447783221; Manufacturer: Wurth Elektronik; DC Resistance: 870 mΩ; DC Resistance Max: 1040 mΩ; Inductance: 220 μH; Rated Current: 0.54 A; Saturation Current: 0.69 A; Self Resonant Frequency: 5 MHz; Type: Performance; Category: Power Inductors; Match Code: WE-PD; ComponentLink1Description: Website Link; ComponentLink1URL: https://www.we-online.com/redexpert/article/7447783221?ad; ComponentLink2Description: Datasheet Link; ComponentLink2URL: https://www.we-online.com/redexpert/spec/7447783221?ad; Mount: Surface Mount; Min Operating Temperature: -40 °C; Max Operating Temperature: 150 °C; Packaging: Tape and Reel; Case/Size Code: 7332P; Length: 7.3 mm; Width: 7.4 mm; Height: 3.5 mm
footprint WE-PD_7332P
simulation model 7332_7447783221_220u
pins: 1, 2

## 7447783330
designator L?, comment 33 μH, 1.32 A  (value not drawn)
WE-PD SMT Power Inductor, size 7332P, 33 μH, 1.32 A, 165 mΩ; Manufacturer Part Number: 7447783330; Manufacturer: Wurth Elektronik; DC Resistance: 138 mΩ; DC Resistance Max: 165 mΩ; Inductance: 33 μH; Rated Current: 1.32 A; Saturation Current: 1.75 A; Self Resonant Frequency: 14 MHz; Type: Performance; Category: Power Inductors; Match Code: WE-PD; ComponentLink1Description: Website Link; ComponentLink1URL: https://www.we-online.com/redexpert/article/7447783330?ad; ComponentLink2Description: Datasheet Link; ComponentLink2URL: https://www.we-online.com/redexpert/spec/7447783330?ad; Mount: Surface Mount; Min Operating Temperature: -40 °C; Max Operating Temperature: 150 °C; Packaging: Tape and Reel; Case/Size Code: 7332P; Length: 7.3 mm; Width: 7.4 mm; Height: 3.5 mm
footprint WE-PD_7332P
simulation model 7332_7447783330_33u
pins: 1, 2

## 7447783331
designator L?, comment 330 μH, 0.45 A  (value not drawn)
WE-PD SMT Power Inductor, size 7332P, 330 μH, 0.45 A, 1430 mΩ; Manufacturer Part Number: 7447783331; Manufacturer: Wurth Elektronik; DC Resistance: 1240 mΩ; DC Resistance Max: 1430 mΩ; Inductance: 330 μH; Rated Current: 0.45 A; Saturation Current: 0.56 A; Self Resonant Frequency: 4 MHz; Type: Performance; Category: Power Inductors; Match Code: WE-PD; ComponentLink1Description: Website Link; ComponentLink1URL: https://www.we-online.com/redexpert/article/7447783331?ad; ComponentLink2Description: Datasheet Link; ComponentLink2URL: https://www.we-online.com/redexpert/spec/7447783331?ad; Mount: Surface Mount; Min Operating Temperature: -40 °C; Max Operating Temperature: 150 °C; Packaging: Tape and Reel; Case/Size Code: 7332P; Length: 7.3 mm; Width: 7.4 mm; Height: 3.5 mm
footprint WE-PD_7332P
simulation model 7332_7447783331_330u
pins: 1, 2

## 7447783470
designator L?, comment 47 μH, 1.2 A  (value not drawn)
WE-PD SMT Power Inductor, size 7332P, 47 μH, 1.2 A, 210 mΩ; Manufacturer Part Number: 7447783470; Manufacturer: Wurth Elektronik; DC Resistance: 180 mΩ; DC Resistance Max: 210 mΩ; Inductance: 47 μH; Rated Current: 1.2 A; Saturation Current: 1.45 A; Self Resonant Frequency: 11.6 MHz; Type: Performance; Category: Power Inductors; Match Code: WE-PD; ComponentLink1Description: Website Link; ComponentLink1URL: https://www.we-online.com/redexpert/article/7447783470?ad; ComponentLink2Description: Datasheet Link; ComponentLink2URL: https://www.we-online.com/redexpert/spec/7447783470?ad; Mount: Surface Mount; Min Operating Temperature: -40 °C; Max Operating Temperature: 150 °C; Packaging: Tape and Reel; Case/Size Code: 7332P; Length: 7.3 mm; Width: 7.4 mm; Height: 3.5 mm
footprint WE-PD_7332P
simulation model 7332_7447783470_47u
pins: 1, 2

## 7447783471
designator L?, comment 470 μH, 0.37 A  (value not drawn)
WE-PD SMT Power Inductor, size 7332P, 470 μH, 0.37 A, 2040 mΩ; Manufacturer Part Number: 7447783471; Manufacturer: Wurth Elektronik; DC Resistance: 1780 mΩ; DC Resistance Max: 2040 mΩ; Inductance: 470 μH; Rated Current: 0.37 A; Saturation Current: 0.47 A; Self Resonant Frequency: 3.3 MHz; Type: Performance; Category: Power Inductors; Match Code: WE-PD; ComponentLink1Description: Website Link; ComponentLink1URL: https://www.we-online.com/redexpert/article/7447783471?ad; ComponentLink2Description: Datasheet Link; ComponentLink2URL: https://www.we-online.com/redexpert/spec/7447783471?ad; Mount: Surface Mount; Min Operating Temperature: -40 °C; Max Operating Temperature: 150 °C; Packaging: Tape and Reel; Case/Size Code: 7332P; Length: 7.3 mm; Width: 7.4 mm; Height: 3.5 mm
footprint WE-PD_7332P
simulation model 7332_7447783471_470u
pins: 1, 2

## 7447783680
designator L?, comment 68 μH, 1 A  (value not drawn)
WE-PD SMT Power Inductor, size 7332P, 68 μH, 1 A, 300 mΩ; Manufacturer Part Number: 7447783680; Manufacturer: Wurth Elektronik; DC Resistance: 260 mΩ; DC Resistance Max: 300 mΩ; Inductance: 68 μH; Rated Current: 1 A; Saturation Current: 1.25 A; Self Resonant Frequency: 9.3 MHz; Type: Performance; Category: Power Inductors; Match Code: WE-PD; ComponentLink1Description: Website Link; ComponentLink1URL: https://www.we-online.com/redexpert/article/7447783680?ad; ComponentLink2Description: Datasheet Link; ComponentLink2URL: https://www.we-online.com/redexpert/spec/7447783680?ad; Mount: Surface Mount; Min Operating Temperature: -40 °C; Max Operating Temperature: 150 °C; Packaging: Tape and Reel; Case/Size Code: 7332P; Length: 7.3 mm; Width: 7.4 mm; Height: 3.5 mm
footprint WE-PD_7332P
simulation model 7332_7447783680_68u
pins: 1, 2

## 7447783681
designator L?, comment 680 μH, 0.31 A  (value not drawn)
WE-PD SMT Power Inductor, size 7332P, 680 μH, 0.31 A, 2900 mΩ; Manufacturer Part Number: 7447783681; Manufacturer: Wurth Elektronik; DC Resistance: 2520 mΩ; DC Resistance Max: 2900 mΩ; Inductance: 680 μH; Rated Current: 0.31 A; Saturation Current: 0.39 A; Self Resonant Frequency: 2.75 MHz; Type: Performance; Category: Power Inductors; Match Code: WE-PD; ComponentLink1Description: Website Link; ComponentLink1URL: https://www.we-online.com/redexpert/article/7447783681?ad; ComponentLink2Description: Datasheet Link; ComponentLink2URL: https://www.we-online.com/redexpert/spec/7447783681?ad; Mount: Surface Mount; Min Operating Temperature: -40 °C; Max Operating Temperature: 150 °C; Packaging: Tape and Reel; Case/Size Code: 7332P; Length: 7.3 mm; Width: 7.4 mm; Height: 3.5 mm
footprint WE-PD_7332P
simulation model 7332_7447783681_680u
pins: 1, 2

## 7447785001
designator L?, comment 1 μH, 3.5 A  (value not drawn)
WE-PD SMT Power Inductor, size 6033R, 1 μH, 3.5 A, 39 mΩ; Manufacturer Part Number: 7447785001; Manufacturer: Wurth Elektronik; DC Resistance: 31 mΩ; DC Resistance Max: 39 mΩ; Inductance: 1 μH; Rated Current: 3.5 A; Saturation Current: 4.5 A; Self Resonant Frequency: 192 MHz; Type: Robust; Category: Power Inductors; Match Code: WE-PD; ComponentLink1Description: Website Link; ComponentLink1URL: https://www.we-online.com/redexpert/article/7447785001?ad; ComponentLink2Description: Datasheet Link; ComponentLink2URL: https://www.we-online.com/redexpert/spec/7447785001?ad; Mount: Surface Mount; Min Operating Temperature: -40 °C; Max Operating Temperature: 125 °C; Packaging: Tape and Reel; Case/Size Code: 6033R; Length: 5.9 mm; Width: 6.2 mm; Height: 3.3 mm
footprint WE-PD_6033R
simulation model 6033_7447785001_1u
pins: 1, 2

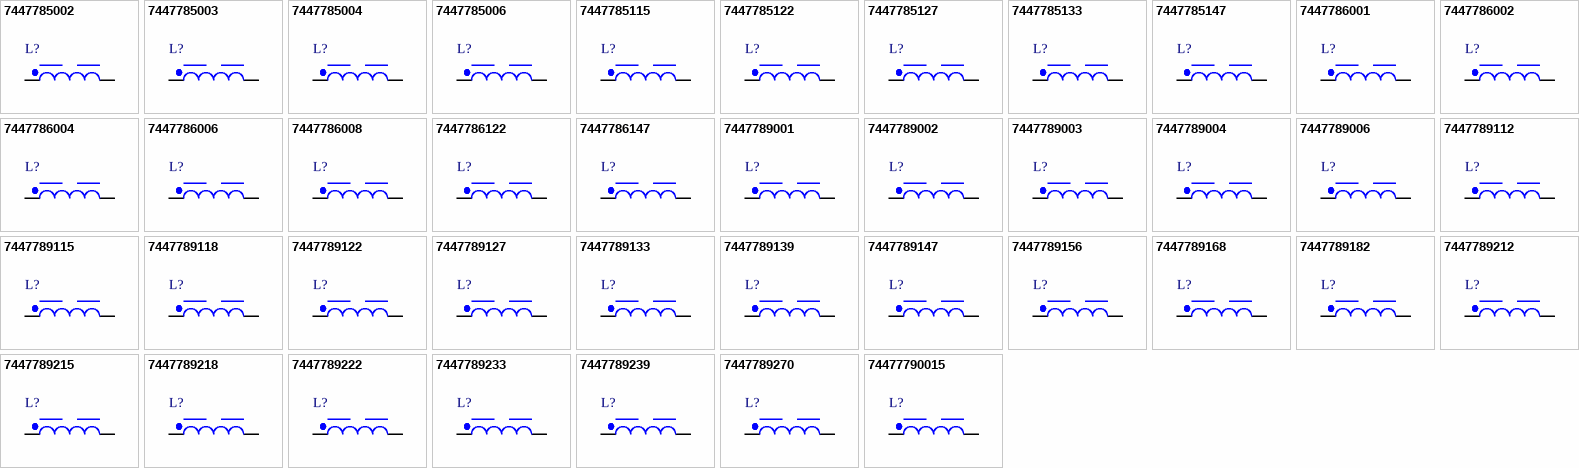
[diagram p8: symbols 7447785002 to 74477790015]

## 7447785002
designator L?, comment 2.2 μH, 2.9 A  (value not drawn)
WE-PD SMT Power Inductor, size 6033R, 2.2 μH, 2.9 A, 54 mΩ; Manufacturer Part Number: 7447785002; Manufacturer: Wurth Elektronik; DC Resistance: 43 mΩ; DC Resistance Max: 54 mΩ; Inductance: 2.2 μH; Rated Current: 2.9 A; Saturation Current: 3.3 A; Self Resonant Frequency: 88 MHz; Type: Robust; Category: Power Inductors; Match Code: WE-PD; ComponentLink1Description: Website Link; ComponentLink1URL: https://www.we-online.com/redexpert/article/7447785002?ad; ComponentLink2Description: Datasheet Link; ComponentLink2URL: https://www.we-online.com/redexpert/spec/7447785002?ad; Mount: Surface Mount; Min Operating Temperature: -40 °C; Max Operating Temperature: 125 °C; Packaging: Tape and Reel; Case/Size Code: 6033R; Length: 5.9 mm; Width: 6.2 mm; Height: 3.3 mm
footprint WE-PD_6033R
simulation model 6033_7447785002_2.2u
pins: 1, 2

## 7447785003
designator L?, comment 3.3 μH, 2.8 A  (value not drawn)
WE-PD SMT Power Inductor, size 6033R, 3.3 μH, 2.8 A, 67 mΩ; Manufacturer Part Number: 7447785003; Manufacturer: Wurth Elektronik; DC Resistance: 43 mΩ; DC Resistance Max: 67 mΩ; Inductance: 3.3 μH; Rated Current: 2.8 A; Saturation Current: 3 A; Self Resonant Frequency: 60 MHz; Type: Robust; Category: Power Inductors; Match Code: WE-PD; ComponentLink1Description: Website Link; ComponentLink1URL: https://www.we-online.com/redexpert/article/7447785003?ad; ComponentLink2Description: Datasheet Link; ComponentLink2URL: https://www.we-online.com/redexpert/spec/7447785003?ad; Mount: Surface Mount; Min Operating Temperature: -40 °C; Max Operating Temperature: 125 °C; Packaging: Tape and Reel; Case/Size Code: 6033R; Length: 5.9 mm; Width: 6.2 mm; Height: 3.3 mm
footprint WE-PD_6033R
simulation model 6033_7447785003_3.3u
pins: 1, 2

## 7447785004
designator L?, comment 4.7 μH, 2.2 A  (value not drawn)
WE-PD SMT Power Inductor, size 6033R, 4.7 μH, 2.2 A, 78 mΩ; Manufacturer Part Number: 7447785004; Manufacturer: Wurth Elektronik; DC Resistance: 60 mΩ; DC Resistance Max: 78 mΩ; Inductance: 4.7 μH; Rated Current: 2.2 A; Saturation Current: 2.5 A; Self Resonant Frequency: 53 MHz; Type: Robust; Category: Power Inductors; Match Code: WE-PD; ComponentLink1Description: Website Link; ComponentLink1URL: https://www.we-online.com/redexpert/article/7447785004?ad; ComponentLink2Description: Datasheet Link; ComponentLink2URL: https://www.we-online.com/redexpert/spec/7447785004?ad; Mount: Surface Mount; Min Operating Temperature: -40 °C; Max Operating Temperature: 125 °C; Packaging: Tape and Reel; Case/Size Code: 6033R; Length: 5.9 mm; Width: 6.2 mm; Height: 3.3 mm
footprint WE-PD_6033R
simulation model 6033_7447785004_4.7u
pins: 1, 2

## 7447785006
designator L?, comment 6.8 μH, 2.3 A  (value not drawn)
WE-PD SMT Power Inductor, size 6033R, 6.8 μH, 2.3 A, 100 mΩ; Manufacturer Part Number: 7447785006; Manufacturer: Wurth Elektronik; DC Resistance: 79 mΩ; DC Resistance Max: 100 mΩ; Inductance: 6.8 μH; Rated Current: 2.3 A; Saturation Current: 2 A; Self Resonant Frequency: 45 MHz; Type: Robust; Category: Power Inductors; Match Code: WE-PD; ComponentLink1Description: Website Link; ComponentLink1URL: https://www.we-online.com/redexpert/article/7447785006?ad; ComponentLink2Description: Datasheet Link; ComponentLink2URL: https://www.we-online.com/redexpert/spec/7447785006?ad; Mount: Surface Mount; Min Operating Temperature: -40 °C; Max Operating Temperature: 125 °C; Packaging: Tape and Reel; Case/Size Code: 6033R; Length: 5.9 mm; Width: 6.2 mm; Height: 3.3 mm
footprint WE-PD_6033R
simulation model 6033_7447785006_6.8u
pins: 1, 2

## 7447785115
designator L?, comment 15 μH, 1.6 A  (value not drawn)
WE-PD SMT Power Inductor, size 6033R, 15 μH, 1.6 A, 200 mΩ; Manufacturer Part Number: 7447785115; Manufacturer: Wurth Elektronik; DC Resistance: 165 mΩ; DC Resistance Max: 200 mΩ; Inductance: 15 μH; Rated Current: 1.6 A; Saturation Current: 1.4 A; Self Resonant Frequency: 28 MHz; Type: Robust; Category: Power Inductors; Match Code: WE-PD; ComponentLink1Description: Website Link; ComponentLink1URL: https://www.we-online.com/redexpert/article/7447785115?ad; ComponentLink2Description: Datasheet Link; ComponentLink2URL: https://www.we-online.com/redexpert/spec/7447785115?ad; Mount: Surface Mount; Min Operating Temperature: -40 °C; Max Operating Temperature: 125 °C; Packaging: Tape and Reel; Case/Size Code: 6033R; Length: 5.9 mm; Width: 6.2 mm; Height: 3.3 mm
footprint WE-PD_6033R
simulation model 6033_7447785115_15u
pins: 1, 2

## 7447785122
designator L?, comment 22 μH, 1.35 A  (value not drawn)
WE-PD SMT Power Inductor, size 6033R, 22 μH, 1.35 A, 250 mΩ; Manufacturer Part Number: 7447785122; Manufacturer: Wurth Elektronik; DC Resistance: 210 mΩ; DC Resistance Max: 250 mΩ; Inductance: 22 μH; Rated Current: 1.35 A; Saturation Current: 1.1 A; Self Resonant Frequency: 23 MHz; Type: Robust; Category: Power Inductors; Match Code: WE-PD; ComponentLink1Description: Website Link; ComponentLink1URL: https://www.we-online.com/redexpert/article/7447785122?ad; ComponentLink2Description: Datasheet Link; ComponentLink2URL: https://www.we-online.com/redexpert/spec/7447785122?ad; Mount: Surface Mount; Min Operating Temperature: -40 °C; Max Operating Temperature: 125 °C; Packaging: Tape and Reel; Case/Size Code: 6033R; Length: 5.9 mm; Width: 6.2 mm; Height: 3.3 mm
footprint WE-PD_6033R
simulation model 6033_7447785122_22u
pins: 1, 2

## 7447785127
designator L?, comment 27 μH, 0.9 A  (value not drawn)
WE-PD SMT Power Inductor, size 6033R, 27 μH, 0.9 A, 360 mΩ; Manufacturer Part Number: 7447785127; Manufacturer: Wurth Elektronik; DC Resistance: 300 mΩ; DC Resistance Max: 360 mΩ; Inductance: 27 μH; Rated Current: 0.9 A; Saturation Current: 1 A; Self Resonant Frequency: 18 MHz; Type: Robust; Category: Power Inductors; Match Code: WE-PD; ComponentLink1Description: Website Link; ComponentLink1URL: https://www.we-online.com/redexpert/article/7447785127?ad; ComponentLink2Description: Datasheet Link; ComponentLink2URL: https://www.we-online.com/redexpert/spec/7447785127?ad; Mount: Surface Mount; Min Operating Temperature: -40 °C; Max Operating Temperature: 125 °C; Packaging: Tape and Reel; Case/Size Code: 6033R; Length: 5.9 mm; Width: 6.2 mm; Height: 3.3 mm
footprint WE-PD_6033R
simulation model 6033_7447785127_27u
pins: 1, 2

## 7447785133
designator L?, comment 33 μH, 0.85 A  (value not drawn)
WE-PD SMT Power Inductor, size 6033R, 33 μH, 0.85 A, 400 mΩ; Manufacturer Part Number: 7447785133; Manufacturer: Wurth Elektronik; DC Resistance: 340 mΩ; DC Resistance Max: 400 mΩ; Inductance: 33 μH; Rated Current: 0.85 A; Saturation Current: 0.9 A; Self Resonant Frequency: 17 MHz; Type: Robust; Category: Power Inductors; Match Code: WE-PD; ComponentLink1Description: Website Link; ComponentLink1URL: https://www.we-online.com/redexpert/article/7447785133?ad; ComponentLink2Description: Datasheet Link; ComponentLink2URL: https://www.we-online.com/redexpert/spec/7447785133?ad; Mount: Surface Mount; Min Operating Temperature: -40 °C; Max Operating Temperature: 125 °C; Packaging: Tape and Reel; Case/Size Code: 6033R; Length: 5.9 mm; Width: 6.2 mm; Height: 3.3 mm
footprint WE-PD_6033R
simulation model 6033_7447785133_33u
pins: 1, 2